# EAGLE library part DRV8837 (library SparkFun-IC-Special-Function)
IC MOTOR DRIVER PAR 8WSON
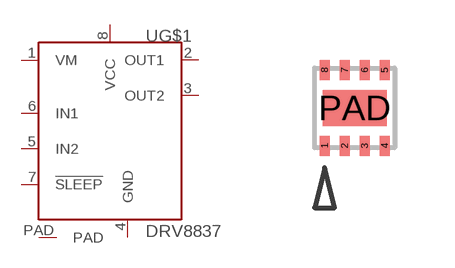
[diagram p35: symbol with the pads of WSON-8-PAD; footprint WSON-8-PAD]

Designator prefix -; gates G$1=DRV8837 G$2=PAD

## DRV8837DSGR (MF: Texas Instruments; MPN: DRV8837DSGR)  [WSON-8-PAD]
1  G$1:VM
2  G$1:OUT1
3  G$1:OUT2
4  G$1:GND
5  G$1:IN2
6  G$1:IN1
7  G$1:!SLEEP
8  G$1:VCC
PAD  G$2:PAD

## Footprint WSON-8-PAD (pad centres in mm)
smd 0.25 x 0.5: 1 -0.75,-0.95; 2 -0.25,-0.95; 3 0.25,-0.95; 4 0.75,-0.95; 5 0.75,0.95; 6 0.25,0.95; 7 -0.25,0.95; 8 -0.75,0.95
smd 1.6 x 0.9: PAD 0,0